# Altium schematic symbol library Robsense_lxxu.SchLib: 21 symbols
Pins are listed as number, name and electrical type; pins without a type are passive.

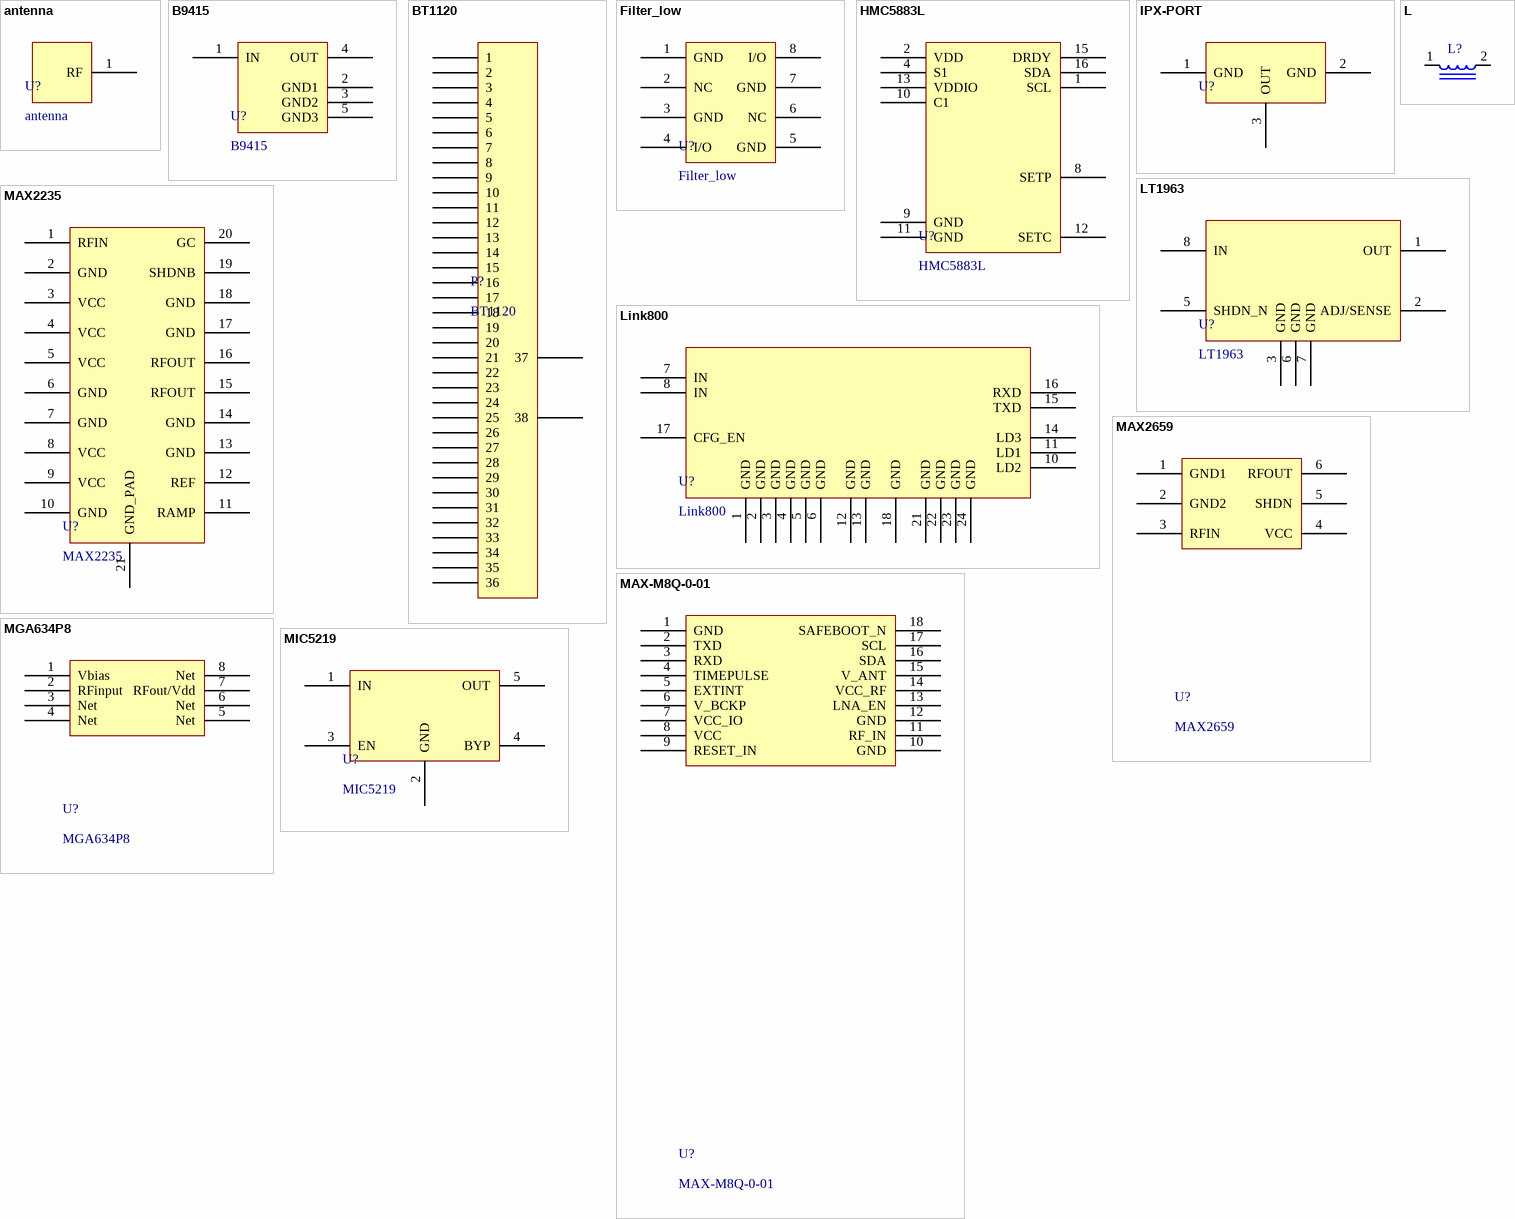
[diagram p0: symbols antenna to MIC5219]

## antenna
designator U?
pins: 1 RF

## B9415
designator U?
pins: 1 IN, 2 GND1, 3 GND2, 4 OUT, 5 GND3

## BT1120
designator P?
pins: 1, 2, 3, 4, 5, 6, 7, 8, 9, 10, 11, 12, 13, 14, 15, 16, 17, 18, 19, 20, 21, 22, 23, 24, 25, 26, 27, 28, 29, 30, 31, 32, 33, 34, 35, 36, 37, 38

## Filter_low
designator U?
pins: 1 GND, 2 NC, 3 GND, 4 I/O, 5 GND, 6 NC, 7 GND, 8 I/O

## HMC5883L
designator U?
pins: 1 SCL, 2 VDD, 4 S1, 8 SETP, 9 GND, 10 C1, 11 GND, 12 SETC, 13 VDDIO, 15 DRDY, 16 SDA

## IPX-PORT
designator U?  (value not drawn)
pins: 1 GND, 2 GND, 3 OUT

## L
designator L?  (value not drawn)
pins: 1, 2

## Link800
designator U?
pins: 1 GND, 2 GND, 3 GND, 4 GND, 5 GND, 6 GND, 7 IN, 8 IN, 10 LD2, 11 LD1, 12 GND, 13 GND, 14 LD3, 15 TXD, 16 RXD, 17 CFG_EN, 18 GND, 21 GND, 22 GND, 23 GND, 24 GND

## LT1963
designator U?
pins: 1 OUT, 2 ADJ/SENSE, 3 GND, 5 SHDN_N, 6 GND, 7 GND, 8 IN

## MAX2235
designator U?
pins: 1 RFIN, 2 GND, 3 VCC, 4 VCC, 5 VCC, 6 GND, 7 GND, 8 VCC, 9 VCC, 10 GND, 11 RAMP, 12 REF, 13 GND, 14 GND, 15 RFOUT, 16 RFOUT, 17 GND, 18 GND, 19 SHDNB, 20 GC, 21 GND_PAD

## MAX2659
designator U?
pins: 1 GND1, 2 GND2, 3 RFIN, 4 VCC, 5 SHDN, 6 RFOUT

## MAX-M8Q-0-01
designator U?
pins: 1 GND, 2 TXD, 3 RXD, 4 TIMEPULSE, 5 EXTINT, 6 V_BCKP, 7 VCC_IO, 8 VCC, 9 RESET_IN, 10 GND, 11 RF_IN, 12 GND, 13 LNA_EN, 14 VCC_RF, 15 V_ANT, 16 SDA, 17 SCL, 18 SAFEBOOT_N

## MGA634P8
designator U?
pins: 1 Vbias, 2 RFinput, 3 Net, 4 Net, 5 Net, 6 Net, 7 RFout/Vdd, 8 Net

## MIC5219
designator U?
pins: 1 IN, 2 GND, 3 EN, 4 BYP, 5 OUT

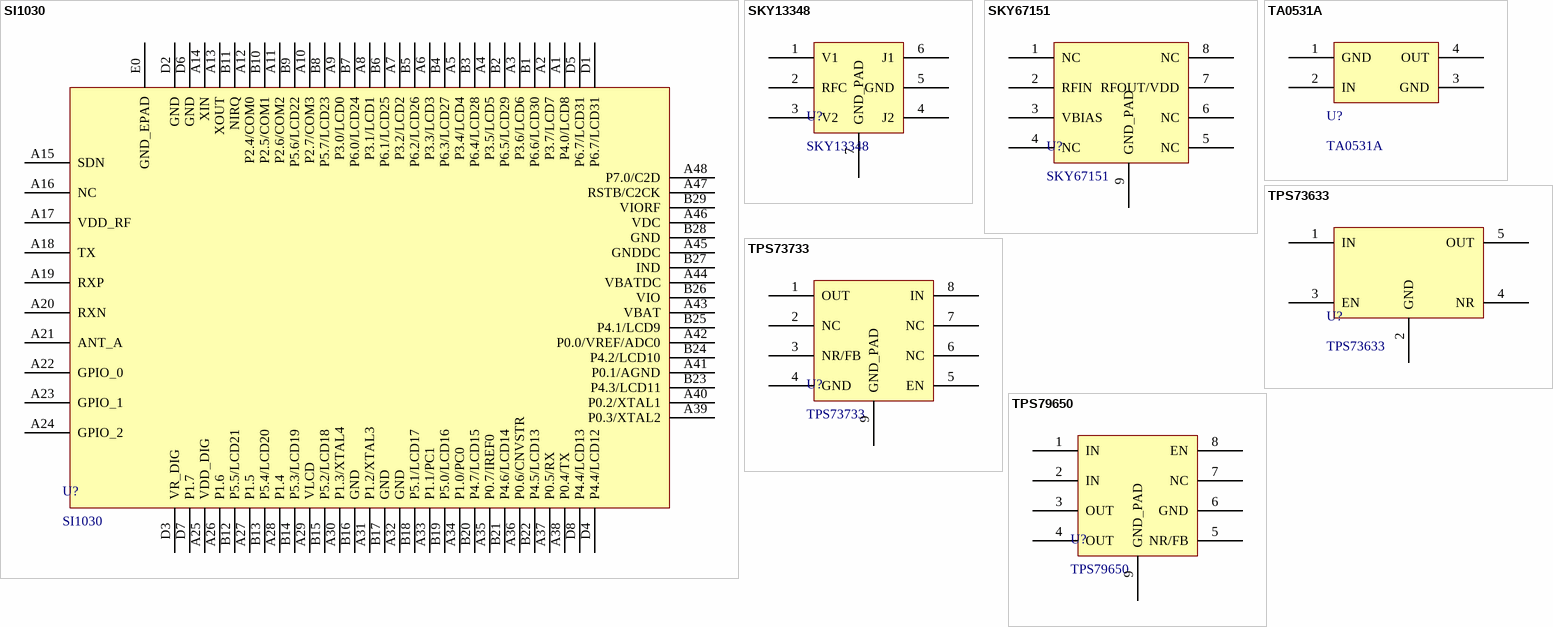
[diagram p1: symbols SI1030 to TPS79650]

## SI1030
designator U?
pins: A1 P4.0/LCD8, A2 P3.7/LCD7, A3 P3.6/LCD6, A4 P3.5/LCD5, A5 P3.4/LCD4, A6 P3.3/LCD3, A7 P3.2/LCD2, A8 P3.1/LCD1, A9 P3.0/LCD0, A10 P2.7/COM3, A11 P2.6/COM2, A12 P2.4/COM0, A13 XOUT, A14 XIN, A15 SDN, A16 NC, A17 VDD_RF, A18 TX, A19 RXP, A20 RXN, A21 ANT_A, A22 GPIO_0, A23 GPIO_1, A24 GPIO_2, A25 VDD_DIG, A26 P1.6, A27 P1.5, A28 P1.4, A29 VLCD, A30 P1.3/XTAL4, A31 P1.2/XTAL3, A32 GND, A33 P1.1/PC1, A34 P1.0/PC0, A35 P0.7/IREF0, A36 P0.6/CNVSTR, A37 P0.5/RX, A38 P0.4/TX, A39 P0.3/XTAL2, A40 P0.2/XTAL1, A41 P0.1/AGND, A42 P0.0/VREF/ADC0, A43 VBAT, A44 VBATDC, A45 GNDDC, A46 VDC, A47 RSTB/C2CK, A48 P7.0/C2D, B1 P6.6/LCD30, B2 P6.5/LCD29, B3 P6.4/LCD28, B4 P6.3/LCD27, B5 P6.2/LCD26, B6 P6.1/LCD25, B7 P6.0/LCD24, B8 P5.7/LCD23, B9 P5.6/LCD22, B10 P2.5/COM1, B11 NIRQ, B12 P5.5/LCD21, B13 P5.4/LCD20, B14 P5.3/LCD19, B15 P5.2/LCD18, B16 GND, B17 GND, B18 P5.1/LCD17, B19 P5.0/LCD16, B20 P4.7/LCD15, B21 P4.6/LCD14, B22 P4.5/LCD13, B23 P4.3/LCD11, B24 P4.2/LCD10, B25 P4.1/LCD9, B26 VIO, B27 IND, B28 GND, B29 VIORF, D1 P6.7/LCD31, D2 GND, D3 VR_DIG, D4 P4.4/LCD12, D5 P6.7/LCD31, D6 GND, D7 P1.7, D8 P4.4/LCD13, E0 GND_EPAD

## SKY13348
designator U?
pins: 1 V1, 2 RFC, 3 V2, 4 J2, 5 GND, 6 J1, 7 GND_PAD

## SKY67151
designator U?
pins: 1 NC, 2 RFIN, 3 VBIAS, 4 NC, 5 NC, 6 NC, 7 RFOUT/VDD, 8 NC, 9 GND_PAD

## TA0531A
designator U?
pins: 1 GND, 2 IN, 3 GND, 4 OUT

## TPS73633
designator U?
pins: 1 IN, 2 GND, 3 EN, 4 NR, 5 OUT

## TPS73733
designator U?
pins: 1 OUT, 2 NC, 3 NR/FB, 4 GND, 5 EN, 6 NC, 7 NC, 8 IN, 9 GND_PAD

## TPS79650
designator U?
pins: 1 IN, 2 IN, 3 OUT, 4 OUT, 5 NR/FB, 6 GND, 7 NC, 8 EN, 9 GND_PAD